# Altium schematic symbol library 1825255-1.SchLib: 2 symbols
Pins are listed as number, name and electrical type; pins without a type are passive.

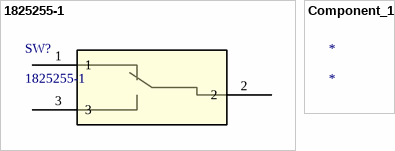
[diagram p0: symbols 1825255-1 to Component_1]

## 1825255-1
designator SW?
No Description Available; Mfr_Name: TE Connectivity; Copyright: Copyright (C) 2022 Ultra Librarian. All rights reserved.; Manufacturer_Part_Number: 1825255-1; RefDes: RefDes; Type: DEV
footprint SW3_1825255-1_TEC
pins: 1, 2, 3

## Component_1
designator *